# Altium schematic symbol library AUDIO_AMP_TAS5733L.Schlib: 1 symbol
Pins are listed as number, name and electrical type; pins without a type are passive.

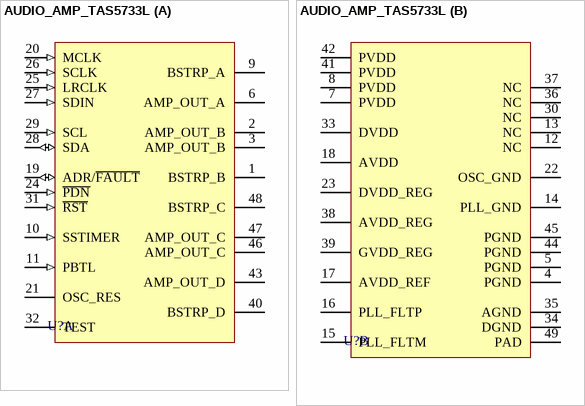
[diagram p0: symbol AUDIO_AMP_TAS5733L]

## AUDIO_AMP_TAS5733L
designator U?
part A pins: 1 BSTRP_B, 2 AMP_OUT_B, 3 AMP_OUT_B, 6 AMP_OUT_A, 9 BSTRP_A, 10 SSTIMER (in), 11 PBTL (in), 19 ADR/~{FAULT} (io), 20 MCLK (in), 21 OSC_RES, 24 ~{PDN} (in), 25 LRCLK (in), 26 SCLK (in), 27 SDIN (in), 28 SDA (io), 29 SCL (in), 31 ~{RST} (in), 32 TEST, 40 BSTRP_D, 43 AMP_OUT_D, 46 AMP_OUT_C, 47 AMP_OUT_C, 48 BSTRP_C
part B pins: 4 PGND, 5 PGND, 7 PVDD, 8 PVDD, 12 NC, 13 NC, 14 PLL_GND, 15 PLL_FLTM, 16 PLL_FLTP, 17 AVDD_REF, 18 AVDD, 22 OSC_GND, 23 DVDD_REG, 30 NC, 33 DVDD, 34 DGND, 35 AGND, 36 NC, 37 NC, 38 AVDD_REG, 39 GVDD_REG, 41 PVDD, 42 PVDD, 44 PGND, 45 PGND, 49 PAD